# EAGLE library part INA155 (library mytexas)
Single-Supply, Rail-to-Rail Output, CMOS INSTRUMENTATION AMPLIFIER
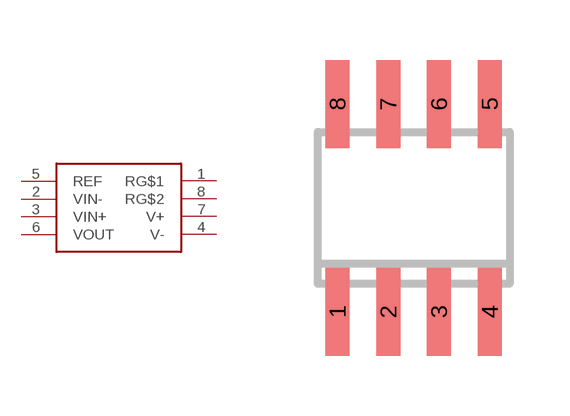
[diagram p107: symbol with the pads of SO-08; footprint SO-08]

Designator prefix -

## INA155  [SO-08]
1  RG$1
2  VIN-
3  VIN+
4  V-
5  REF
6  VOUT
7  V+
8  RG$2

## Footprint SO-08 (pad centres in mm)
D (R-PDSO-G8) Plastic Small Outline Package Source: http://focus.ti.com/lit/ds/symlink/sn65als176.pdf
smd 0.6 x 2.2: 1 -1.905,-2.6; 2 -0.635,-2.6; 3 0.635,-2.6; 4 1.905,-2.6; 5 1.905,2.6; 6 0.635,2.6; 7 -0.635,2.6; 8 -1.905,2.6